# EAGLE library part 74AC04MTC (library 74AC04MTC)
Hex Inverter Source: Datasheet <https://componentsearchengine.com/Datasheets/2/74AC04MTC.pdf>
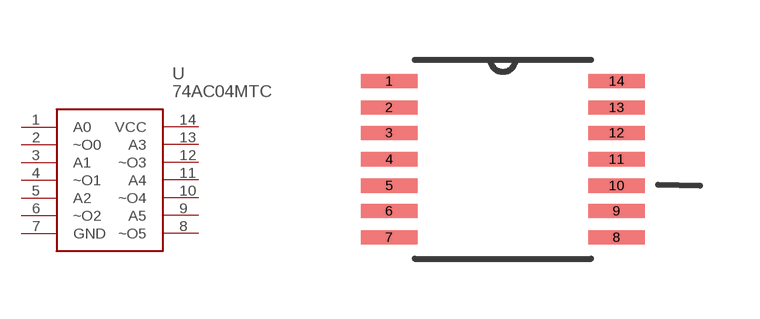
[diagram p0: symbol with the pads of SOP65P640X120-14N; footprint SOP65P640X120-14N]

Designator prefix U

## 74AC04MTC (Description: Hex Inverter; Farnell_Part_Number: 2453037; Farnell_Price-Stock: http://uk.farnell.com/jsp/displayProduct.jsp?sku=2453037&action=view; Height: mm; Manufacturer_Name: ON Semiconductor; Manufacturer_Part_Number: 74AC04MTC)  [SOP65P640X120-14N]
1  A0
2  ~O0
3  A1
4  ~O1
5  A2
6  ~O2
7  GND
8  ~O5
9  A5
10  ~O4
11  A4
12  ~O3
13  A3
14  VCC

## Footprint SOP65P640X120-14N (pad centres in mm)
SOP65P640X120-14N
smd 1.422 x 0.356: 1 -2.845,1.956; 2 -2.845,1.295; 3 -2.845,0.66; 4 -2.845,0; 5 -2.845,-0.66; 6 -2.845,-1.295; 7 -2.845,-1.956; 8 2.845,-1.956; 9 2.845,-1.295; 10 2.845,-0.66; 11 2.845,0; 12 2.845,0.66; 13 2.845,1.295; 14 2.845,1.956